# Altium footprint library TPD4E1B06_fixed.PcbLib: 5 footprints
Each footprint in its own frame and in the unit in brackets; x right, y up, seen from the top. Pads: shape width x height; smd on the part's side, far side on the other; paste and mask are expansions set on the pad; w line width, h text height; cw(c..) or ccw(c..) is an arc to the next point about the centre after c.
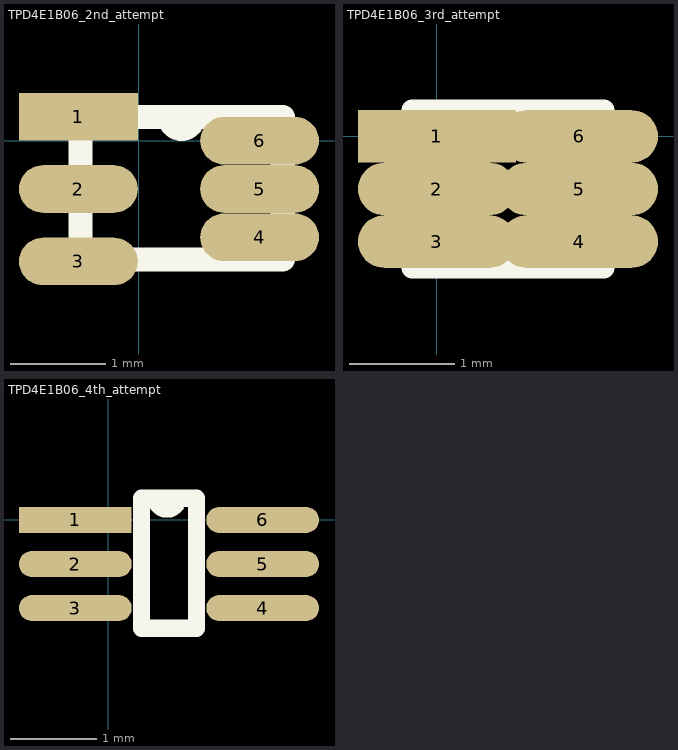
[diagram p0: the footprints below, top view; thin cyan lines are the x and y axes]

## PCBComponent_1 [mm]

## PCBComponent_1 - duplicate [mm]

## TPD4E1B06_2nd_attempt [mm]
pads (6):
  rect 1.25x0.5 smd: 1(-0.635,0.254)
  oval 1.25x0.5 smd: 2(-0.635,-0.508) 3(-0.635,-1.27) 4(1.27,-1.016) 5(1.27,-0.508) 6(1.27,0)
Top Overlay:
  lines w0.254: -0.614,-1.25 1.514,-1.25 1.514,0.25 0.325,0.25 ccw(c0.45,0.25) 0.575,0.25 -0.614,0.25 -0.614,-1.25

## TPD4E1B06_3rd_attempt [mm]
pads (6):
  rect 1.5x0.5 smd: 1(0,0)
  oval 1.5x0.5 smd: 2(0,-0.5) 3(0,-1) 4(1.35,-1) 5(1.35,-0.5) 6(1.35,0)
Top Overlay:
  lines w0.2: -0.235,-1.25 1.585,-1.25 1.585,0.25 0.55,0.25 ccw(c0.675,0.25) 0.8,0.25 -0.235,0.25 -0.235,-1.25

## TPD4E1B06_4th_attempt [mm]
pads (6):
  rect 1.3x0.3 smd: 1(-0.381,0)
  oval 1.3x0.3 smd: 2(-0.381,-0.508) 3(-0.381,-1.016) 4(1.778,-1.016) 5(1.778,-0.508) 6(1.778,0)
Top Overlay:
  lines w0.2: 0.381,-1.25 1.016,-1.25 1.016,0.25 0.55,0.25 ccw(c0.675,0.25) 0.8,0.25 0.381,0.25 0.381,-1.25